# Altium footprint library DRV8302.PcbLib: 1 footprints
Each footprint in its own frame and in the unit in brackets; x right, y up, seen from the top. Pads: shape width x height; smd on the part's side, far side on the other; paste and mask are expansions set on the pad; w line width, h text height; cw(c..) or ccw(c..) is an arc to the next point about the centre after c.
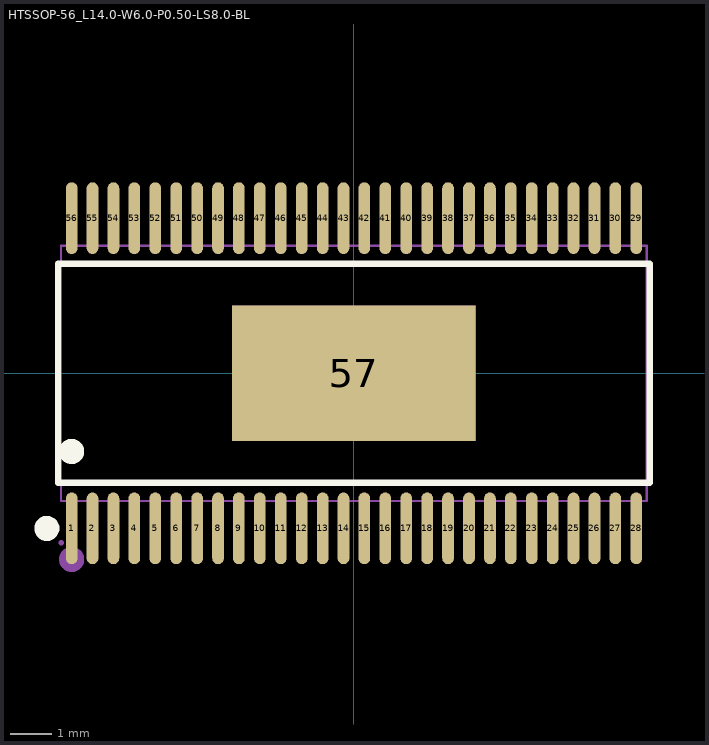
[diagram p0: the footprint, top view; thin cyan lines are the x and y axes]

## HTSSOP-56_L14.0-W6.0-P0.50-LS8.0-BL [mil]
pads (57):
  oval 11x67.5 smd mask+2: 1(-265.7,-146) 2(-246.1,-146) 3(-226.4,-146) 4(-206.7,-146) 5(-187,-146) 6(-167.3,-146) 7(-147.6,-146) 8(-127.9,-146) 9(-108.3,-146) 10(-88.6,-146) 11(-68.9,-146) 12(-49.2,-146) 13(-29.5,-146) 14(-9.8,-146) 15(9.8,-146) 16(29.5,-146) 17(49.2,-146) 18(68.9,-146) 19(88.6,-146) 20(108.3,-146) 21(128,-146) 22(147.6,-146) 23(167.3,-146) 24(187,-146) 25(206.7,-146) 26(226.4,-146) 27(246.1,-146) 28(265.8,-146) 29(265.8,146) 30(246.1,146) 31(226.4,146) 32(206.7,146) 33(187,146) 34(167.3,146) 35(147.6,146) 36(128,146) 37(108.3,146) 38(88.6,146) 39(68.9,146) 40(49.2,146) 41(29.5,146) 42(9.8,146) 43(-9.8,146) 44(-29.5,146) 45(-49.2,146) 46(-68.9,146) 47(-88.6,146) 48(-108.3,146) 49(-127.9,146) 50(-147.6,146) 51(-167.3,146) 52(-187,146) 53(-206.7,146) 54(-226.4,146) 55(-246.1,146) 56(-265.7,146)
  rect 229.3x127.4 smd mask+2: 57(0,0)
Top Overlay:
  circle w11.8: c-289.1,-146 r5.9
  circle w11.8: c-265.7,-73.6 r5.9
  lines w6: -278.6,-103.2 278.6,-103.2 278.6,103.2 -278.6,103.2 -278.6,-103.2
Mechanical 6:
  circle w11.8: c-265.7,-175.2 r5.9
Mechanical 15:
  drawing of 118 lines, arcs and shapes, not listed